# Altium footprint library Hameg.PcbLib: 24 footprints (part 1 of 2)
Each footprint in its own frame and in the unit in brackets; x right, y up, seen from the top. Pads: shape width x height; smd on the part's side, far side on the other; paste and mask are expansions set on the pad; w line width, h text height; cw(c..) or ccw(c..) is an arc to the next point about the centre after c.
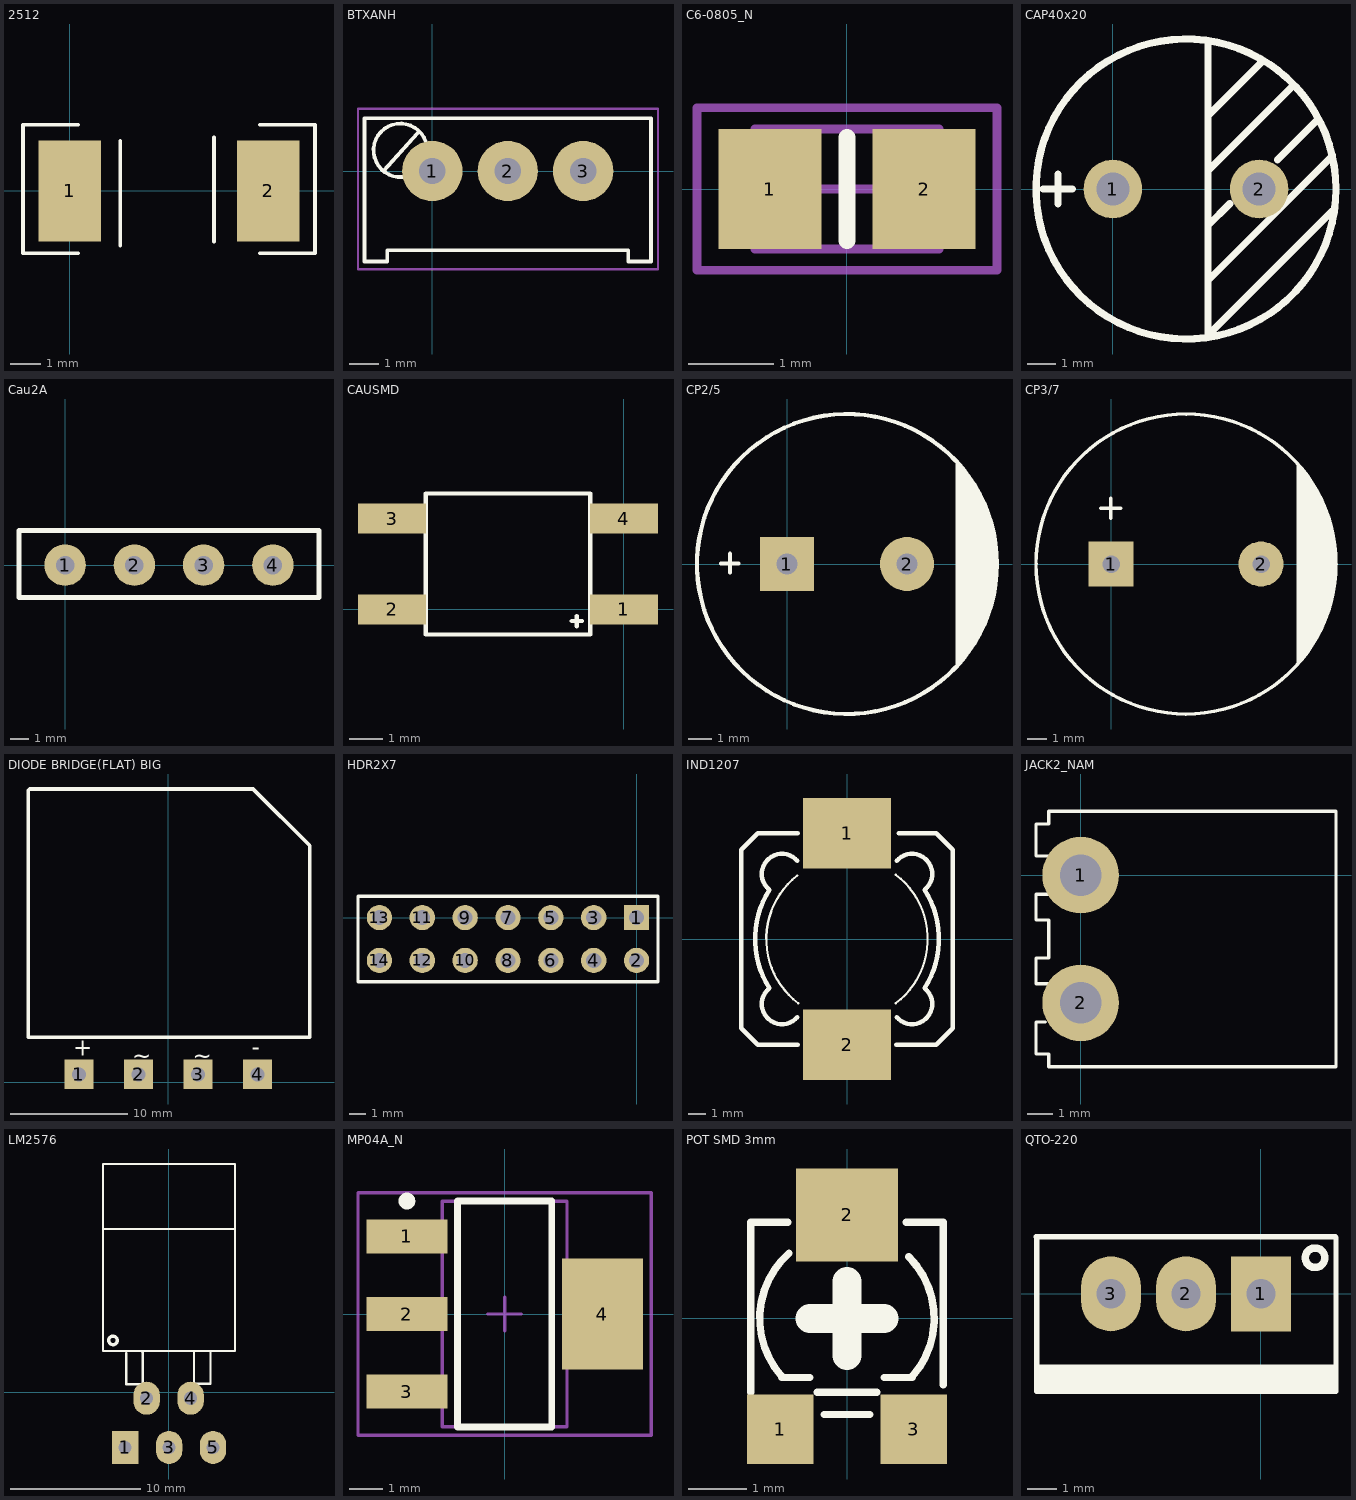
[diagram p0: the footprints below, top view; thin cyan lines are the x and y axes]

## 2512 [mil]
pads (2):
  rect 80x130 smd: 1(0,0) 2(255,0)
Top Overlay:
  lines w5: 10.87,-80 -60,-80 -60,85 10.87,85 ; 65,-70 65,63.86 ; 185,-65 185,68.86 ; 244.13,-80 315,-80 315,85 244.13,85

## BTXANH [mil]
pads (3):
  round 80 hole 35: 1(0,0) 2(100,0) 3(200,0)
Top Overlay:
  lines w5: -65,0 -20,50 ; -39.77,-7.93 cw(c-42.5,27.5) -8.79,38.74 ; -90,-120 -60,-120 -60,-105 260,-105 260,-120 290,-120 290,-105 290,70 -90,70 -90,-105 -90,-120
Mechanical 15:
  lines w3: -98.66,-130.12 299.34,-130.12 299.34,82.48 -98.66,82.48 -98.66,-130.12
3D body: height 444.88, standoff -236.22, extent -90.55,-122.24 287.4,74.61

## C6-0805_N [mm] "Chip Capacitor, Body 2.0x1.2mm, IPC Medium Density"
height 0.7
pads (2):
  rect 1.2x1.4 smd: 1(-0.9,0) 2(0.9,0)
Top Overlay:
  lines w0.2: 0,-0.6 0,0.6
Mechanical 13:
  lines w0.1: -1.075,-0.7 -1.075,0.7 1.075,0.7 1.075,-0.7 -1.075,-0.7
Mechanical 15:
  lines w0.1: -0.5,0 0.5,0 ; 0,-0.5 0,0.5 ; -1.75,-0.95 -1.75,0.95 1.75,0.95 1.75,-0.95 -1.75,-0.95
3D body: height 0.78, standoff 0, extent -1,-0.625 1,0.625

## CAP40x20 [mil]
pads (2):
  round 80 hole 45: 1(0,0) 2(200,0)
Top Overlay:
  circle w10: c100,0 r205
  lines w10: -95,0 -55,0 ; -75,-20 -75,20 ; 130,-120 130,-125 300,45 ; 130,-50 160,-20 ; 130,25 245,140 ; 130,100 205,175 ; 130,200 130,-200 300,-30 ; 225,40 280,95
3D body: height 787.8, standoff -106.3, extent -96.84,-196.84 295.56,196.86

## Cau2A [mil]
pads (4):
  round 90 hole 40: 1(0,0) 2(150,0) 3(300,0) 4(450,0)
Top Overlay:
  lines w10: -100,-70 -100,50 -100,75 550,75 550,-70 -100,-70

## CAUSMD [mil]
pads (4):
  rect 80x35 smd: 1(0,0) 2(-271.65,0) 3(-271.65,106.3) 4(0,106.3)
Top Overlay:
  lines w5: -61.02,-13.78 -49.21,-13.78 ; -55.12,-19.68 -55.12,-7.87 ; -232.28,-29.53 -39.37,-29.53 -39.37,135.83 -232.28,135.83 -232.28,-29.53

## CP2/5 [mil] "Tu hoa 1000uF/25V,50V"
height 600
pads (2):
  rect 90x90 hole 35: 1(0,0)
  round 90 hole 35: 2(200,0)
Top Overlay:
  circle w7: c100,0 r250
  region: 281,174 281,-175 300,-149 301,-151 318,-124 334,-90 349,-29 350,0 348,34 341,70 321,116
  lines w7: -110,1 -81,1 ; -95,-14 -95,17
3D body: height 740.16, standoff -991.64, extent -145.06,-244.12 347.06,248

## CP3/7 [mil] "Tu hoa 4700uF/25V"
height 600
pads (2):
  rect 90x90 hole 35: 1(0,0)
  round 90 hole 35: 2(300,0)
Top Overlay:
  circle w7: c150,0 r300
  region: 425,112 433,96 442,79 447,39 450,-9 449,-34 442,-69 429,-115 397,-171 382,-191 371,-203 371,200 384.5,182.5 395,168 408,153
  lines w7: -21,112 19,112 ; -1,92 -1,132

## DIODE BRIDGE(FLAT) BIG [mil]
pads (4):
  rect 98.43x98.43 hole 47.24: 1(-300,26) 2(-100,26) 3(100,26) 4(300,26)
Top Overlay:
  lines w11.81: -470,150 -470,980 -465,985 285,985 475,795 475,150 -470,150
  text "-" at 281,90 h56.25
  text "+" at -319,89 h56.25
  text "~" at 82,61 h56.25
  text "~" at -121,61 h56.25
3D body: height 224.41, standoff 0, extent -462.6,150 462.6,988.58

## HDR2X7 [mm] "Connector; Header; 7x2 Position"
pads (14):
  rect 1.5x1.5 hole 0.9: 1(0,0)
  round 1.5 hole 0.9: 2(0,-2.54) 3(-2.54,0) 4(-2.54,-2.54) 5(-5.08,0) 6(-5.08,-2.54) 7(-7.62,0) 8(-7.62,-2.54) 9(-10.16,0) 10(-10.16,-2.54) 11(-12.7,0) 12(-12.7,-2.54) 13(-15.24,0) 14(-15.24,-2.54)
Top Overlay:
  lines w0.2: -16.51,-3.81 1.27,-3.81 1.27,1.27 -16.51,1.27 -16.51,-3.81
3D body: height 8.52, standoff -2.98, extent -11.443,-3.797 1.257,1.283
3D body: height 8.52, standoff -2.98, extent -16.497,-3.823 -3.797,1.257

## IND1207 [mm] "inductor 1207"
pads (2):
  rect 5x4 smd: 1(0,6) 2(0,-6)
Top Overlay:
  lines w0.127: -2.825,3.595 ccw(c0,0) -2.763,-3.642 ; 2.763,-3.642 ccw(c0,0) 2.763,3.642
  lines w0.254: -4.427,-2.815 ccw(c-3.683,-3.683) -2.815,-4.427 ; -4.427,2.815 cw(c-3.683,3.683) -2.815,4.427 ; -4.395,-2.795 cw(c0,0) -4.395,2.795 ; -2.794,-6 -5.049,-6 -6,-5.049 -6,5.049 -5.049,6 -2.794,6 ; 2.794,-6 5.049,-6 6,-5.049 6,5.049 5.049,6 2.921,6 ; 2.815,-4.427 ccw(c3.683,-3.683) 4.427,-2.815 ; 2.815,4.427 cw(c3.683,3.683) 4.427,2.815 ; 4.395,-2.795 ccw(c0,0) 4.395,2.795
3D body: height 7.51, standoff 0, extent -6.25,-6.25 6.25,6.25

## JACK2_NAM [mil]
pads (2):
  round 120 hole 65: 1(0,0) 2(0,-200)
Top Overlay:
  lines w5: -55,-230 -70,-230 -70,-280 -50,-280 -50,-300 230,-300 400,-300 400,100 230,100 -50,100 -50,80 -70,80 -70,30 -50,30 ; -50,-170 -70,-170 -70,-130 -50,-130 -50,-70 -70,-70 -70,-60 -70,-30 -50,-30
3D body: height 338.58, standoff -137.8, extent -72.53,-300 400,100

## LM2576 [mil]
height 93.7
pads (5):
  rect 80x100 hole 40: 1(-132,-167.09)
  oval 80x100 hole 40: 2(-67,-18) 3(1,-167) 4(66,-18) 5(134,-167)
Top Overlay:
  circle w10: c-168.76,156.92 r12.97
  lines w7: -198.73,489.92 -198.73,690.92 200.27,690.92 200.27,670.92 ; -198.73,492.92 -198.73,124.92 200.27,124.92 200.27,493.92 -197.73,493.92 ; -128.73,118.92 -128.73,23.92 -78.73,23.92 -78.73,120.92 -79.73,121.92 ; 76.27,120.92 76.27,25.92 126.27,25.92 126.27,122.92 125.27,123.92 ; 200.27,492.92 200.27,673.92
3D body: height 185.04, standoff -244.09, extent -204.45,-182.5 205,692.5

## MP04A_N [mm] "SOT223, 4-Leads, Body 6.5x3.5mm, Pitch 2.3mm, Lead Span 7mm, IPC Medium Density"
height 1.8
pads (4):
  rect 2.4x1 smd: 1(-2.9,2.3) 2(-2.9,0) 3(-2.9,-2.3)
  rect 2.4x3.3 smd: 4(2.9,0)
Top Overlay:
  circle w0.25: c-2.9,3.35 r0.125
  lines w0.2: -1.4,-3.35 1.4,-3.35 1.4,3.35 -1.4,3.35 -1.4,-3.35
Mechanical 13:
  lines w0.1: -1.85,-3.35 1.85,-3.35 1.85,3.35 -1.85,3.35 -1.85,-3.35
Mechanical 15:
  lines w0.1: -0.5,0 0.5,0 ; 0,-0.5 0,0.5 ; -4.35,-3.6 4.35,-3.6 4.35,3.6 -4.35,3.6 -4.35,-3.6
3D body: height 1.8, standoff 0, extent -1.85,-3.35 1.85,3.35

## POT SMD 3mm [mil]
pads (3):
  rect 45x47 smd: 1(-45,-75) 3(45,-75)
  rect 69x63 smd: 2(0,70)
Top Overlay:
  lines w5: -65,-50 -65,65 -40,65 ; -44.14,-40 -25,-40 ; -44.14,-39.23 cw(c0,0) -39.23,44.14 ; -20,-50 20,-50 ; -15.5,-65 15.5,-65 ; 25,-40 44.14,-40 ; 40,65 65,65 65,-45 ; 41.76,41.76 cw(c0,0) 44.14,-39.23
  lines w19.68: -25,0 25,0 ; 0,-25 0,25
3D body: height 39.69, standoff -1.18, extent -74.8,-87.79 74.81,89.37

## QTO-220 [mil] "TO-220 - 1-2-3"
height 200
pads (3):
  rect 80x100 hole 39: 1(0,0)
  oval 80x100 hole 39: 2(-100,0) 3(-200,0)
Top Overlay:
  circle w10: c72.03,48 r12.97
  region: 99,-94 -300,-94 -300,-130 99,-130
  lines w7: -299,-93 -298,-107 ; -300,76 -299,75 -299,-130 100,-130 100,75 99,76 76,76 -300,76
3D body: height 754.72, standoff -400, extent -322.46,-120.65 119,64